# Altium schematic symbol library MEGA.SchLib: 13 symbols
Pins are listed as number, name and electrical type; pins without a type are passive.

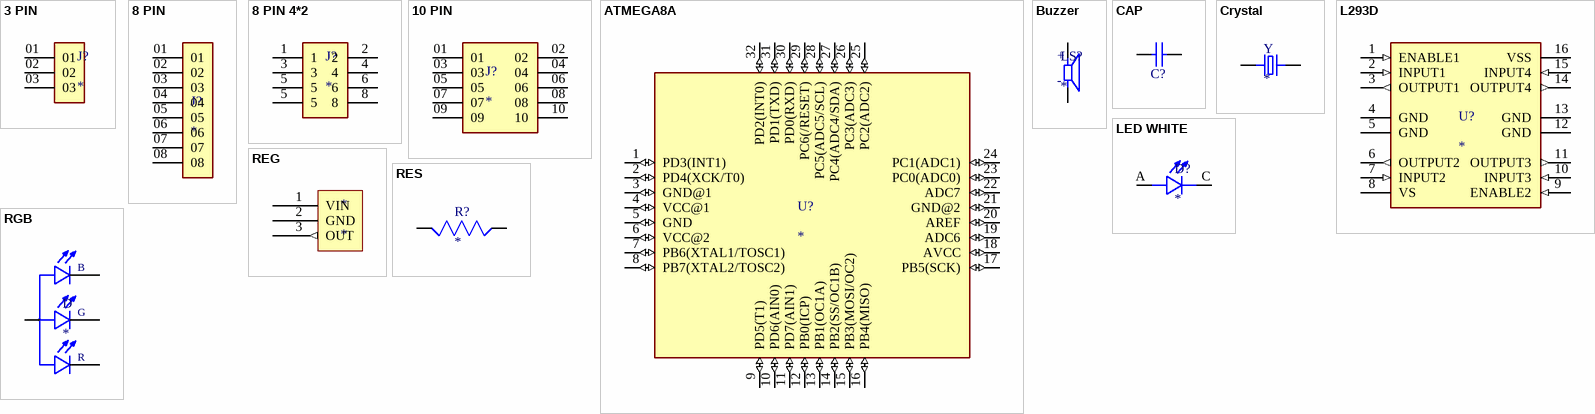
[diagram p0: symbols 3 PIN to RGB]

## 3 PIN
designator J?
footprint 3 PIN
pins: 01, 02, 03

## 8 PIN
designator J?
footprint 8 PIN
pins: 01, 02, 03, 04, 05, 06, 07, 08

## 8 PIN 4*2
designator J?
footprint Pin 8 2*4
pins: 1, 2, 3, 4, 5, 5, 6, 8

## 10 PIN
designator J?
footprint 10 PIN
pins: 01, 02, 03, 04, 05, 06, 07, 08, 09, 10

## ATMEGA8A
designator U?
ATmega Microcontroller IC 8-Bit 16MHz 8KB (4K x 16) FLASH; MF: Microchip; MP: ATMEGA8A-AU; Purchase-URL: https://makerselectronics.com/product/atmega8a-au-8-bit-avr-microcontroller-8kb-1kb-flash-23-2-7v5-5v-avr-16mhz-tqfp-32
footprint ATMEGA8A
pins: 1 PD3(INT1) (io), 2 PD4(XCK/T0) (io), 3 GND@1 (io), 4 VCC@1 (io), 5 GND (io), 6 VCC@2 (io), 7 PB6(XTAL1/TOSC1) (io), 8 PB7(XTAL2/TOSC2) (io), 9 PD5(T1) (io), 10 PD6(AIN0) (io), 11 PD7(AIN1) (io), 12 PB0(ICP) (io), 13 PB1(OC1A) (io), 14 PB2(SS/OC1B) (io), 15 PB3(MOSI/OC2) (io), 16 PB4(MISO) (io), 17 PB5(SCK) (io), 18 AVCC (io), 19 ADC6 (io), 20 AREF (io), 21 GND@2 (io), 22 ADC7 (io), 23 PC0(ADC0) (io), 24 PC1(ADC1) (io), 25 PC2(ADC2) (io), 26 PC3(ADC3) (io), 27 PC4(ADC4/SDA) (io), 28 PC5(ADC5/SCL) (io), 29 PC6(/RESET) (io), 30 PD0(RXD) (io), 31 PD1(TXD) (io), 32 PD2(INT0) (io)

## Buzzer
designator LS?
Magnetic Buzzer 5V 12mm 2 Pin /; MF: CUI Devices; Purchase-URL: https://makerselectronics.com/product/magnetic-buzzer-5v-12mm-2-pin
footprint Buzzer
pins: N, P
text: +; -

## CAP
designator C?, comment 100pF  (value not drawn)
Multilayer Ceramic Capacitors MLCC SMD/SMT
footprint CAP
pins: 1, 2

## Crystal
designator Y
Crystal 16.000MHz 49S 20PPM 20pF 40Ω; MF: ECS Inc.; MP: ECS-160-S-4; Link: https://makerselectronics.com/product/crystal-16-000mhz-49s-20ppm-20pf-40%cf%89
footprint Crystil
pins: 1, 2

## L293D
designator U?
Bipolar Motor Driver - Parallel 16-PowerDIP; MP: L293D; MF: STMicroelectronics; Purchase-URL: https://makerselectronics.com/product/l293d-quadruple-half-h-driver-dip-16
footprint L293D
pins: 1 ENABLE1 (in), 2 INPUT1 (in), 3 OUTPUT1 (out), 4 GND (power), 5 GND (power), 6 OUTPUT2 (out), 7 INPUT2 (in), 8 VS (power), 9 ENABLE2 (in), 10 INPUT3 (in), 11 OUTPUT3 (out), 12 GND (power), 13 GND (power), 14 OUTPUT4 (out), 15 INPUT4 (in), 16 VSS (power)

## LED WHITE
designator D?
LED SMD 1206 Warm White
footprint LED WHITE
pins: A, C

## REG
designator *
footprint REG
pins: 1 VIN (power), 2 GND (power), 3 OUT (out)

## RES
designator R?
footprint RES
pins: 1, 2

## RGB
designator D
LED; SMD; 0603; RGB;; MP: RGB SMD; MF: OptoSupply; SnapEDA_Link: https://makerselectronics.com/product/rgb-smd-led-0603-common-cathode
footprint RGB
pins: 1, 2, 3, 4
text: B; G; R